# Altium footprint library Sensor_Footprints.PcbLib: 5 footprints
Each footprint in its own frame and in the unit in brackets; x right, y up, seen from the top. Pads: shape width x height; smd on the part's side, far side on the other; paste and mask are expansions set on the pad; w line width, h text height; cw(c..) or ccw(c..) is an arc to the next point about the centre after c.
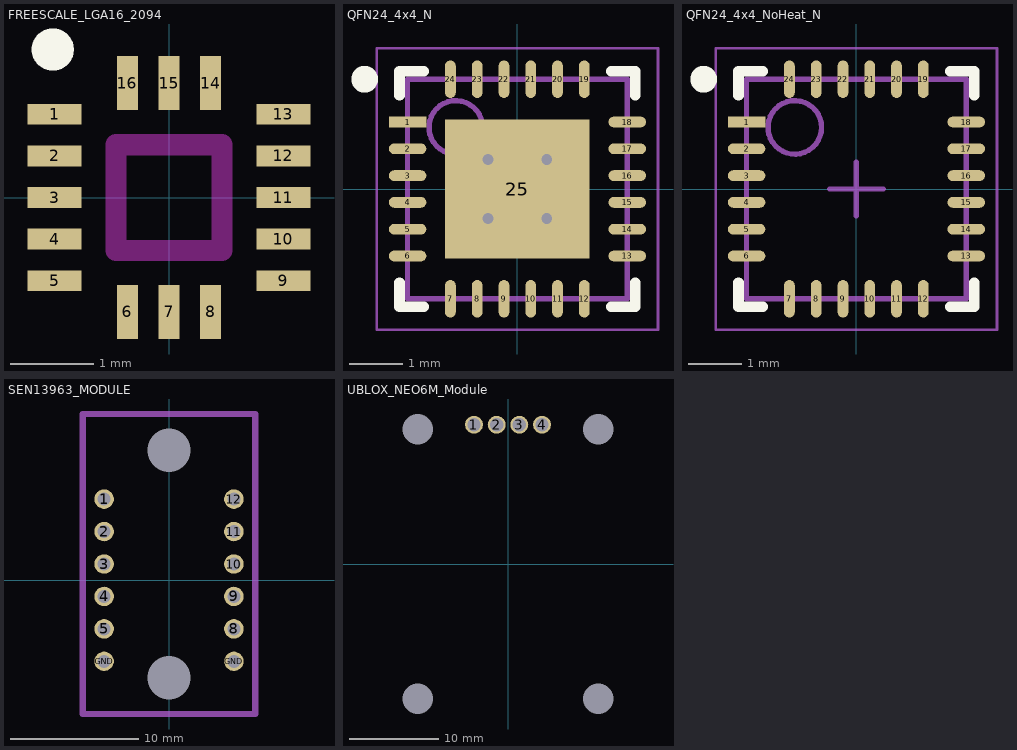
[diagram p0: the footprints below, top view; thin cyan lines are the x and y axes]

## FREESCALE_LGA16_2094 [mm] "Freescale LGA16 package layout"
pads (16):
  rect 0.65x0.25 smd: 1(-1.375,1) 2(-1.375,0.5) 3(-1.375,0) 4(-1.375,-0.5) 5(-1.375,-1) 9(1.375,-1) 10(1.375,-0.5) 11(1.375,0) 12(1.375,0.5) 13(1.375,1)
  rect 0.25x0.65 smd: 6(-0.5,-1.375) 7(0,-1.375) 8(0.5,-1.375) 14(0.5,1.375) 15(0,1.375) 16(-0.5,1.375)
Top Overlay:
  circle w0.254: c-1.397,1.778 r0.127
Keep-Out Layer:
  lines w0.254: -0.635,-0.635 -0.635,0.635 0.635,0.635 0.635,-0.635 -0.635,-0.635

## QFN24_4x4_N [mm] "QFN, 24-Leads, Body 4.00x4.00mm, Pitch 0.50mm, Thermal Pad 2.60x2.70mm, IPC Medium Density"
height 0.95
pads (25):
  rect 0.7x0.2 smd: 1(-2.05,1.25)
  oval 0.7x0.2 smd: 2(-2.05,0.75) 3(-2.05,0.25) 4(-2.05,-0.25) 5(-2.05,-0.75) 6(-2.05,-1.25) 13(2.05,-1.25) 14(2.05,-0.75) 15(2.05,-0.25) 16(2.05,0.25) 17(2.05,0.75) 18(2.05,1.25)
  oval 0.2x0.7 smd: 7(-1.25,-2.05) 8(-0.75,-2.05) 9(-0.25,-2.05) 10(0.25,-2.05) 11(0.75,-2.05) 12(1.25,-2.05) 19(1.25,2.05) 20(0.75,2.05) 21(0.25,2.05) 22(-0.25,2.05) 23(-0.75,2.05) 24(-1.25,2.05)
  rect 2.7x2.6 smd: 25(0,0)
via 0.55,-0.55 diameter 0.5 hole 0.2
via -0.55,-0.55 diameter 0.5 hole 0.2
via 0.55,0.55 diameter 0.5 hole 0.2
via -0.55,0.55 diameter 0.5 hole 0.2
Top Overlay:
  circle w0.25: c-2.85,2.05 r0.125
  lines w0.2: -2.2,-1.75 -2.2,-2.2 -1.75,-2.2 ; -2.2,1.75 -2.2,2.2 -1.75,2.2 ; 1.75,-2.2 2.2,-2.2 2.2,-1.75 ; 1.75,2.2 2.2,2.2 2.2,1.75
Mechanical 13:
  circle w0.1: c-1.15,1.15 r0.5
  lines w0.1: -2.05,-2.05 2.05,-2.05 2.05,2.05 -2.05,2.05 -2.05,-2.05
Mechanical 15:
  lines w0.05: -2.625,-2.625 2.625,-2.625 2.625,2.625 -2.625,2.625 -2.625,-2.625
  lines w0.1: -0.5,0 0.5,0 ; 0,-0.5 0,0.5
3D body: height 0.95, standoff 0.05, extent -2.05,-2.05 2.05,2.05

## QFN24_4x4_NoHeat_N [mm] "QFN, 24-Leads, Body 4.00x4.00mm, Pitch 0.50mm, No Thermal Pad, IPC Medium Density"
height 0.95
pads (24):
  rect 0.7x0.2 smd: 1(-2.05,1.25)
  oval 0.7x0.2 smd: 2(-2.05,0.75) 3(-2.05,0.25) 4(-2.05,-0.25) 5(-2.05,-0.75) 6(-2.05,-1.25) 13(2.05,-1.25) 14(2.05,-0.75) 15(2.05,-0.25) 16(2.05,0.25) 17(2.05,0.75) 18(2.05,1.25)
  oval 0.2x0.7 smd: 7(-1.25,-2.05) 8(-0.75,-2.05) 9(-0.25,-2.05) 10(0.25,-2.05) 11(0.75,-2.05) 12(1.25,-2.05) 19(1.25,2.05) 20(0.75,2.05) 21(0.25,2.05) 22(-0.25,2.05) 23(-0.75,2.05) 24(-1.25,2.05)
Top Overlay:
  circle w0.25: c-2.85,2.05 r0.125
  lines w0.2: -2.2,-1.75 -2.2,-2.2 -1.75,-2.2 ; -2.2,1.75 -2.2,2.2 -1.75,2.2 ; 1.75,-2.2 2.2,-2.2 2.2,-1.75 ; 1.75,2.2 2.2,2.2 2.2,1.75
Mechanical 13:
  circle w0.1: c-1.15,1.15 r0.5
  lines w0.1: -2.05,-2.05 2.05,-2.05 2.05,2.05 -2.05,2.05 -2.05,-2.05
Mechanical 15:
  lines w0.05: -2.625,-2.625 2.625,-2.625 2.625,2.625 -2.625,2.625 -2.625,-2.625
  lines w0.1: -0.5,0 0.5,0 ; 0,-0.5 0,0.5
3D body: height 0.95, standoff 0.05, extent -2.05,-2.05 2.05,2.05

## SEN13963_MODULE [mil] "Footprint of SEN13963 module"
pads (14):
  round 0 hole 133.86: 0(0,-300.39) 0(0,400.39)
  round 60 hole 40: 1(-200,250) 2(-200,150) 3(-200,50) 4(-200,-50) 5(-200,-150) 8(200,-150) 9(200,-50) 10(200,50) 11(200,150) 12(200,250) GND(-200,-250) GND(200,-250)
Mechanical 1:
  lines w20: -265.75,-412.6 265.75,-412.6 265.75,512.6 -265.75,512.6 -265.75,-412.6

## UBLOX_NEO6M_Module [mm] "UBlox NEO6M module (Hobbytronics)"
height 13
pads (8):
  round 0 hole 3.4: 0(-10.1,-15.1) 0(-10.1,15.1) 0(10.1,-15.1) 0(10.1,15.1)
  round 2 hole 1.5: 1(-3.81,15.6) 2(-1.27,15.6) 3(1.27,15.6) 4(3.81,15.6)
3D body: height 13, standoff 0, extent -12.5,-17.5 12.5,17.5